# EAGLE library part 52271-0769 (library molex)
CONNECTOR, FPC, 1.0MM, 7 WAY
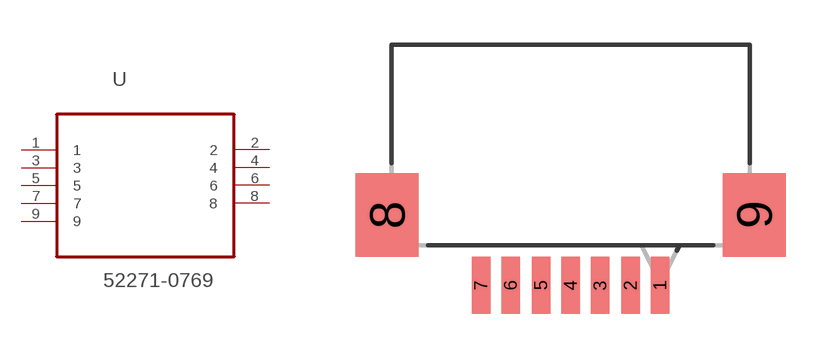
[diagram p10: symbol with the pads of MOLEX_52271-0769; footprint MOLEX_52271-0769]

Designator prefix U

## 52271-0769 (MPN: 52271-0769; OC_FARNELL: 1757087; OC_NEWARK: 92M5936; PACKAGE: CONNECTOR, FPC, 1.0MM, 7 WAY; SUPPLIER: Molex)  [MOLEX_52271-0769]
1  1  pas
2  2  pas
3  3  pas
4  4  pas
5  5  pas
6  6  pas
7  7  pas
8  8  pas
9  9  pas

## Footprint MOLEX_52271-0769 (pad centres in mm)
smd 0.61 x 1.905: 1 2.997,4.699; 2 2.007,4.699; 3 0.991,4.699; 4 0,4.699; 5 -0.991,4.699; 6 -2.007,4.699; 7 -2.997,4.699
smd 2.108 x 2.794: 8 -6.147,7.061; 9 6.147,7.061